# Altium schematic symbol library YMLib.SchLib: 13 symbols
Pins are listed as number, name and electrical type; pins without a type are passive.

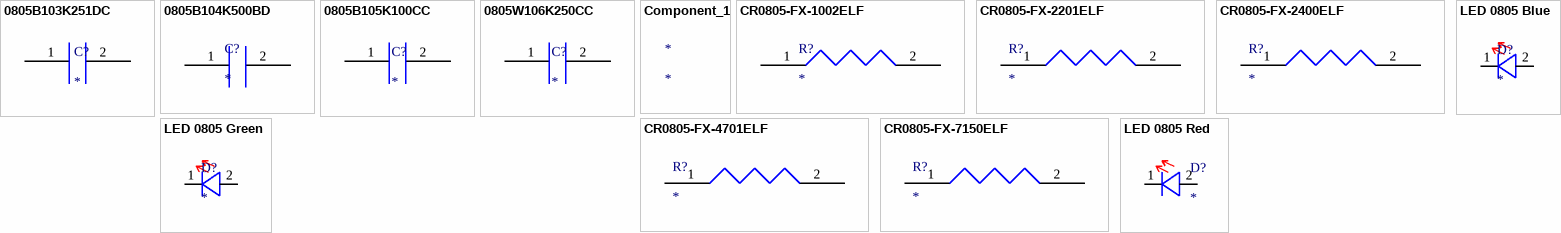
[diagram p0: symbols 0805B103K251DC to LED 0805 Red]

## 0805B103K251DC
designator C?
footprint Capacitor 0805
pins: 1, 2

## 0805B104K500BD
designator C?
footprint Capacitor 0805
pins: 1, 2

## 0805B105K100CC
designator C?
footprint Capacitor 0805
pins: 1, 2

## 0805W106K250CC
designator C?
footprint Capacitor 0805
pins: 1, 2

## Component_1
designator *

## CR0805-FX-1002ELF
designator R?
SMD Chip Resistor, 10 kOhm, ï¿½ 1%, 125 mW, 0805 [2012 Metric], Thick Film, General Purpose; Manufacturer: Bourns; Manufacturer Part Number: CR0805-FX-1002ELF; Resistance: 10kR; Power Rating: 125mW; Voltage Rating: 150V; Temperature Coefficient: 100ppm/°C; Voltage Rating (DC): 100V; Supplier 1: Digikey; RoHS: Yes; Category: Chip SMD Resistors; Stock 1: 371536; Pricing 1: 1=0.1, 10=0.022, 50=0.0132, 100=0.0109, 500=0.00728, 1000=0.00622 (USD); Mount: Surface Mount; Case/Package: 0805; Case Code (Imperial): 0805; Case Code (Metric): 2012; Contact Plating: Tin,Matte; Min Operating Temperature: -55°C; Max Operating Temperature: 155°C; Packaging: Tape and Reel; Tolerance: 1%; Package Quantity: 5000; Resistor Type: Thick Film; Termination: SMD/SMT; Number of Terminations: 2; Max Power Dissipation: 125mW; Features: Moisture Resistant; Series: CR0805; Resistance Tolerance: 1%; Technology: THICK FILM; Length: 2mm; Width: 1.25mm; Height: 0.5mm; Depth: 1.25mm; Thickness: 508um; Radiation Hardening: No; Reach SVHC Compliant: No; RoHS Compliant: Yes; ComponentLink1URL: https://datasheet.ciiva.com/41449/001055507-da-01-en-smd-wid-cr0805-fx-1002elf-10k-ohm-1-8w-41449975.pdf?src-supplier=Conrad; ComponentLink1Description: https://datasheet.ciiva.com/41449/001055507-da-01-en-smd-wid-cr0805-fx-1002elf-10k-ohm-1-8w-41449975.pdf?src-supplier=Conrad; ComponentLink2URL: https://datasheet.ciiva.com/23776/1902866-23776415.pdf?src-supplier=Newark; ComponentLink2Description: https://datasheet.ciiva.com/23776/1902866-23776415.pdf?src-supplier=Newark; Supplier Part Number 1: CR0805-FX-1002ELFCT-ND
footprint Footprint0805
pins: 1, 2

## CR0805-FX-2201ELF
designator R?
SMD Chip Resistor, 2.2 kOhm, ± 1%, 125 mW, 0805 [2012 Metric], Thick Film, General Purpose; Manufacturer: Bourns; Manufacturer Part Number: CR0805-FX-2201ELF; Voltage Rating (DC): 150V; Supplier 1: Digikey; RoHS: Yes; Category: Chip SMD Resistors; Stock 1: 9788; Pricing 1: 1=0.1, 10=0.022, 50=0.0132, 100=0.0109, 500=0.00728, 1000=0.00622 (USD); Thickness: 508um; ComponentLink1URL: https://datasheet.ciiva.com/5541/chpreztr-5541000.pdf?src-supplier=Mouser; ComponentLink1Description: https://datasheet.ciiva.com/5541/chpreztr-5541000.pdf?src-supplier=Mouser; ComponentLink2URL: https://datasheet.ciiva.com/22713/691949-22713256.pdf?src-supplier=Element14; ComponentLink2Description: https://datasheet.ciiva.com/22713/691949-22713256.pdf?src-supplier=Element14; Supplier Part Number 1: 118-CR0805-FX-2201ELFCT-ND
footprint Footprint0805
pins: 1, 2

## CR0805-FX-2400ELF
designator R?
Res Thick Film 0805 240 Ohm 1% 1/8W ±100ppm/°C Molded SMD SMD Paper Tape on Plastic Reel; Manufacturer: Bourns; Manufacturer Part Number: CR0805-FX-2400ELF; Supplier 1: Digikey; RoHS: Yes; Category: Chip SMD Resistors; Stock 1: 48241; Pricing 1: 1=0.1, 10=0.022, 50=0.0138, 100=0.0117, 500=0.00808, 1000=0.00699 (USD); Thickness: 508um; ComponentLink1URL: https://datasheet.ciiva.com/5546/chpreztr-5546520.pdf?src-supplier=Mouser; ComponentLink1Description: https://datasheet.ciiva.com/5546/chpreztr-5546520.pdf?src-supplier=Mouser; ComponentLink2URL: https://datasheet.ciiva.com/18608/chpreztr-18608492.pdf?src-supplier=Digikey; ComponentLink2Description: https://datasheet.ciiva.com/18608/chpreztr-18608492.pdf?src-supplier=Digikey; ComponentLink3URL: https://datasheet.ciiva.com/18608/chpreztr-18608493.pdf?src-supplier=Digikey; ComponentLink3Description: https://datasheet.ciiva.com/18608/chpreztr-18608493.pdf?src-supplier=Digikey; ComponentLink4URL: https://datasheet.ciiva.com/18608/chpreztr-18608494.pdf?src-supplier=Digikey; ComponentLink4Description: https://datasheet.ciiva.com/18608/chpreztr-18608494.pdf?src-supplier=Digikey; ComponentLink5URL: https://datasheet.ciiva.com/9120/chpreztr-9120142.pdf?src-supplier=Avnet; ComponentLink5Description: https://datasheet.ciiva.com/9120/chpreztr-9120142.pdf?src-supplier=Avnet; Supplier Part Number 1: CR0805-FX-2400ELFCT-ND
footprint Footprint0805
pins: 1, 2

## CR0805-FX-4701ELF
designator R?
Res Thick Film 0805 4.7K Ohm 1% 1/8W ±100ppm/°C Molded SMD SMD Paper Tape on Plastic Reel; Manufacturer: Bourns; Manufacturer Part Number: CR0805-FX-4701ELF; Voltage Rating (DC): 150V; Supplier 1: Digikey; RoHS: Yes; Category: Chip SMD Resistors; Stock 1: 508170; Pricing 1: 1=0.1, 10=0.021, 50=0.0132, 100=0.011, 500=0.00744, 1000=0.00639 (USD); Number of Pins: 2NUMBER; Thickness: 508um; ComponentLink1URL: https://datasheet.ciiva.com/5543/chpreztr-5543029.pdf?src-supplier=Mouser; ComponentLink1Description: https://datasheet.ciiva.com/5543/chpreztr-5543029.pdf?src-supplier=Mouser; ComponentLink2URL: https://datasheet.ciiva.com/46383/691949-46383838.pdf?src-supplier=Element14; ComponentLink2Description: https://datasheet.ciiva.com/46383/691949-46383838.pdf?src-supplier=Element14; ComponentLink3URL: https://datasheet.ciiva.com/22713/691949-22713259.pdf?src-supplier=Element14; ComponentLink3Description: https://datasheet.ciiva.com/22713/691949-22713259.pdf?src-supplier=Element14; ComponentLink4URL: https://datasheet.ciiva.com/16757/70154685-16757478.pdf?src-supplier=Allied+Electronics; ComponentLink4Description: https://datasheet.ciiva.com/16757/70154685-16757478.pdf?src-supplier=Allied+Electronics; ComponentLink5URL: https://datasheet.ciiva.com/9122/chpreztr-9122809.pdf?src-supplier=Avnet; ComponentLink5Description: https://datasheet.ciiva.com/9122/chpreztr-9122809.pdf?src-supplier=Avnet; Supplier Part Number 1: CR0805-FX-4701ELFCT-ND
footprint Footprint0805
pins: 1, 2

## CR0805-FX-7150ELF
designator R?
RES SMD 715 OHM 1% 1/8W 0805; Manufacturer: Bourns; Manufacturer Part Number: CR0805-FX-7150ELF; Supplier 1: Digikey; RoHS: Yes; Category: Chip SMD Resistors; Stock 1: 19077; Pricing 1: 1=0.1, 10=0.031, 50=0.0198, 100=0.0166, 500=0.01148, 1000=0.00994 (USD); ComponentLink1URL: https://datasheet.ciiva.com/9119/chpreztr-9119397.pdf?src-supplier=Avnet; ComponentLink1Description: https://datasheet.ciiva.com/9119/chpreztr-9119397.pdf?src-supplier=Avnet; ComponentLink2URL: https://datasheet.ciiva.com/5541/chpreztr-5541405.pdf?src-supplier=Mouser; ComponentLink2Description: https://datasheet.ciiva.com/5541/chpreztr-5541405.pdf?src-supplier=Mouser; Supplier Part Number 1: CR0805-FX-7150ELFCT-ND
footprint Footprint0805
pins: 1, 2

## LED 0805 Blue
designator D?
power: 1 watt; working voltage: 5 volt; working current: 1 Amper; ComponentLink1Description: data sheet; ComponentLink1URL: https://learn.adafruit.com/all-about-leds/the-led-datasheet
footprint LED-SMD-0805
pins: 1, 2

## LED 0805 Green
designator D?
footprint LED-SMD-0805
pins: 1, 2

## LED 0805 Red
designator D?
footprint LED-SMD-0805
pins: 1, 2